# Altium footprint library BatteryHolder.PcbLib: 1 footprints
Each footprint in its own frame and in the unit in brackets; x right, y up, seen from the top. Pads: shape width x height; smd on the part's side, far side on the other; paste and mask are expansions set on the pad; w line width, h text height; cw(c..) or ccw(c..) is an arc to the next point about the centre after c.
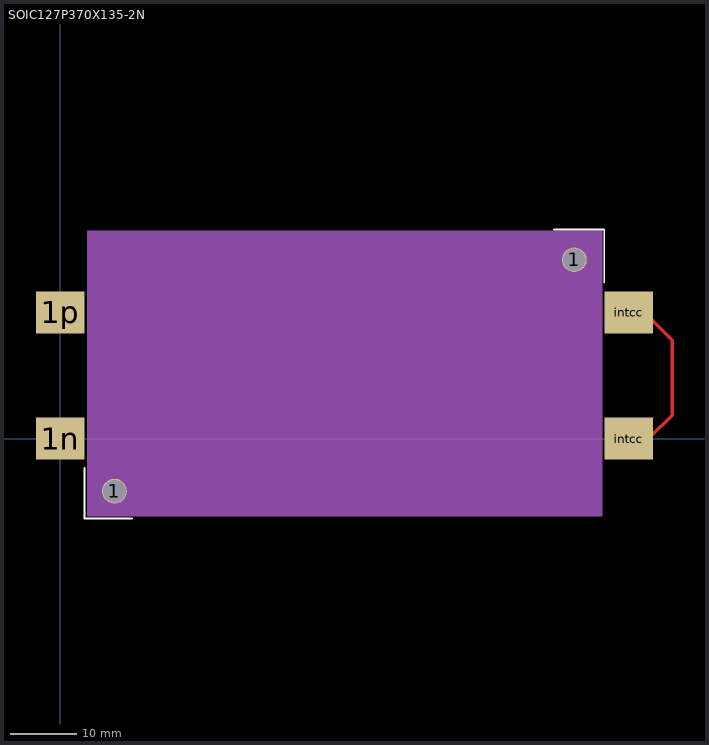
[diagram p0: the footprint, top view; thin cyan lines are the x and y axes]

## SOIC127P370X135-2N [mm] "SOIC, 2-Leads, Body 1.55x2.70mm, Pitch 1.27mm, IPC Medium Density"
height 1.35
pads (6):
  round 3.75 hole 3.45: 1(8.22,-7.95) 1(77.78,27.06)
  rect 7.34x6.35 smd: 1n(0,0) 1p(0,19.11) intcc(86,0) intcc(86,19.11)
Top Layer:
  lines w0.3: 86.233,0.254 89.281,0.254 ; 86.233,18.415 89.027,18.415
  lines w0.5: 89.027,18.415 92.583,14.859 92.583,3.556 89.281,0.254
Top Overlay:
  lines w0.254: 3.683,-4.445 3.683,-12.065 10.922,-12.065 ; 74.676,31.623 82.296,31.623 82.296,23.622
Mechanical 1:
  rectangle: 4.064,-11.811 82.042,31.496